# EAGLE library part 1313-MCP23S17-E/SS (library CircuitHub)
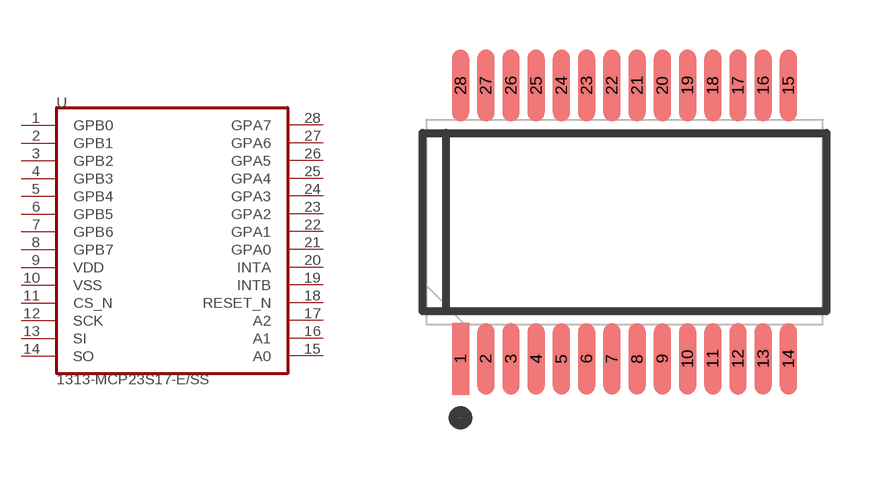
[diagram p2: symbol with the pads of bittenbybytes/dlgfi; footprint bittenbybytes/dlgfi]

Designator prefix U

## 1313-MCP23S17-E/SS (CircuitHubID: 1313; URL: https://circuithub.com/parts/MICROCHIP/MCP23S17-E%2FSS; footprintRevision: fccb079752b65206f0f54441aebacb90bbc1be34; footprintURN: bittenbybytes/dlgfi; symbolRevision: a4218d078ea21605fbf64b9e63d24c3a0754434f; symbolURN: bittenbybytes/axyem)  [bittenbybytes/dlgfi]
1  GPB0  in
2  GPB1  in
3  GPB2  in
4  GPB3  in
5  GPB4  in
6  GPB5  in
7  GPB6  in
8  GPB7  in
9  VDD  in
10  VSS  in
11  CS_N  in
12  SCK  in
13  SI  in
14  SO  in
15  A0  in
16  A1  in
17  A2  in
18  RESET_N  in
19  INTB  in
20  INTA  in
21  GPA0  in
22  GPA1  in
23  GPA2  in
24  GPA3  in
25  GPA4  in
26  GPA5  in
27  GPA6  in
28  GPA7  in

## Footprint bittenbybytes/dlgfi (pad centres in mm)
smd 0.44 x 1.85: 1 -4.225,-3.525; 2 -3.575,-3.525; 3 -2.925,-3.525; 4 -2.275,-3.525; 5 -1.625,-3.525; 6 -0.975,-3.525; 7 -0.325,-3.525; 8 0.325,-3.525; 9 0.975,-3.525; 10 1.625,-3.525; 11 2.275,-3.525; 12 2.925,-3.525; 13 3.575,-3.525; 14 4.225,-3.525; 15 4.225,3.525; 16 3.575,3.525; 17 2.925,3.525; 18 2.275,3.525; 19 1.625,3.525; 20 0.975,3.525; 21 0.325,3.525; 22 -0.325,3.525; 23 -0.975,3.525; 24 -1.625,3.525; 25 -2.275,3.525; 26 -2.925,3.525; 27 -3.575,3.525; 28 -4.225,3.525